# Altium footprint library SlaveBoardFootprints.PcbLib: 18 footprints (part 1 of 2)
Each footprint in its own frame and in the unit in brackets; x right, y up, seen from the top. Pads: shape width x height; smd on the part's side, far side on the other; paste and mask are expansions set on the pad; w line width, h text height; cw(c..) or ccw(c..) is an arc to the next point about the centre after c.
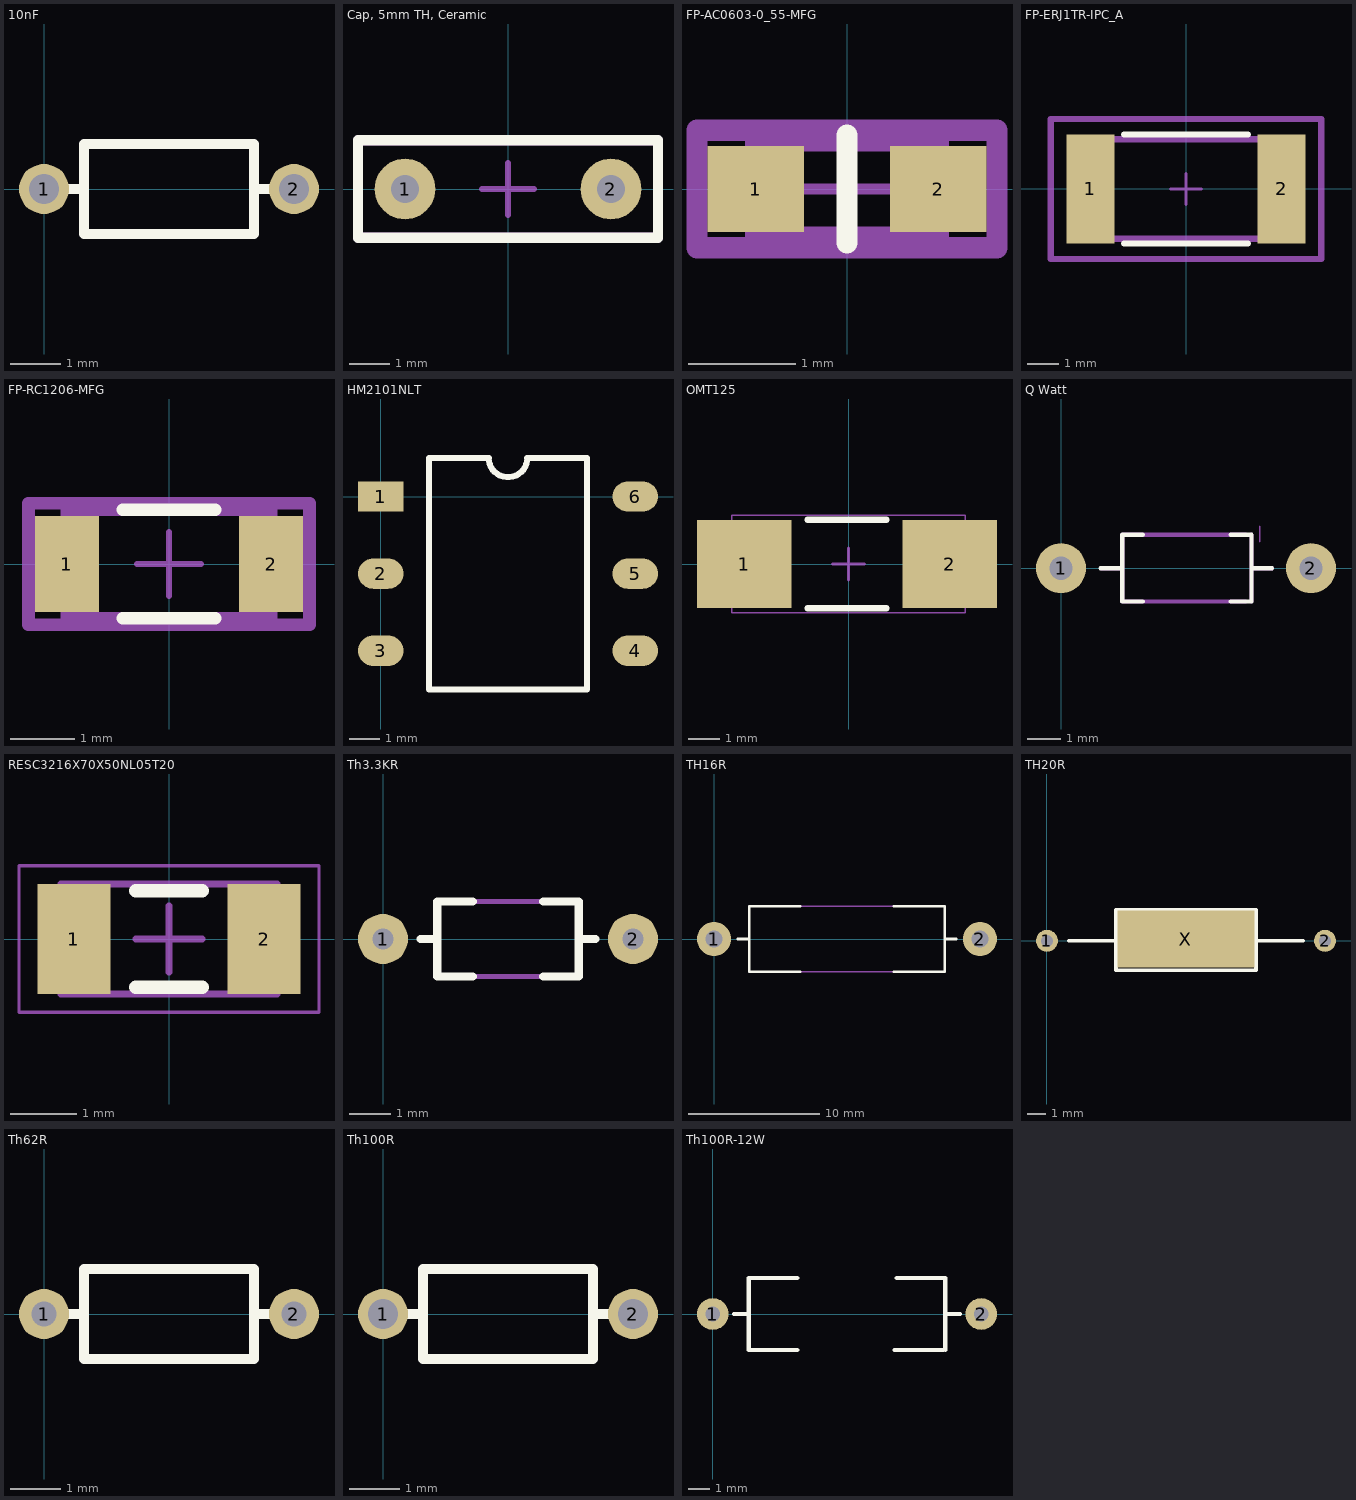
[diagram p0: the footprints below, top view; thin cyan lines are the x and y axes]

## 10nF [mm]
pads (2):
  round 1 hole 0.6: 1(0,0) 2(5,0)
Top Overlay:
  lines w0.2: 0,0 0.8,0 ; 4.2,0 5,0 ; 0.8,-0.9 4.2,-0.9 4.2,0.9 0.8,0.9 0.8,-0.9

## Cap, 5mm TH, Ceramic [mm] "Through Hole Cap, Ceramic"
height 2.54
pads (2):
  round 1.5 hole 0.7: 1(-2.54,0) 2(2.54,0)
Top Overlay:
  lines w0.254: -3.7,-1.2 -3.7,1.2 3.7,1.2 3.7,-1.2 -3.7,-1.2
Mechanical 15:
  lines w0.152: -0.635,0 0.635,0 ; 0,-0.635 0,0.635
  lines w0.254: -3.7,-1.2 -3.7,1.2 3.7,1.2 3.7,-1.2 -3.7,-1.2
3D body "CAP_DISC_4x3_YL.stp": height 4.47, standoff -3, extent -2.764,-1.5 2.765,1.5

## FP-AC0603-0_55-MFG [mm]
pads (2):
  rect 0.9x0.8 smd paste+0 mask+0: 1(-0.85,0) 2(0.85,0)
Top Overlay:
  lines w0.2: 0,-0.5 0,0.5
Top 3D Body:
  lines w0.2: -0.85,-0.45 0.85,-0.45 0.85,0.45 -0.85,0.45 -0.85,-0.45
Top Courtyard:
  lines w0.2: -1.4,-0.55 1.4,-0.55 1.4,0.55 -1.4,0.55 -1.4,-0.55
Top Assembly:
  lines w0.2: -1.4,-0.55 1.4,-0.55 1.4,0.55 -1.4,0.55 -1.4,-0.55
Top Component Center:
  lines w0.1: -0.5,0 0.5,0 ; 0,-0.5 0,0.5
3D body "Res_Yageo_AC0603FR-07180RL_eec.STEP": height 0.25, standoff 0, extent -1.4,-0.55 1.4,0.55

## FP-ERJ1TR-IPC_A [mm]
pads (2):
  rect 1.555x3.506 smd paste+0 mask+0: 1(-3.076,0) 2(3.076,0)
Top Overlay:
  lines w0.2: -1.998,-1.753 1.998,-1.753 ; -1.998,1.753 1.998,1.753
Top 3D Body:
  lines w0.2: -3.2,-1.6 -3.2,1.6 3.2,1.6 3.2,-1.6 -3.2,-1.6
Top Courtyard:
  lines w0.2: -4.353,-2.253 -4.353,2.253 4.353,2.253 4.353,-2.253 -4.353,-2.253
Top Assembly:
  lines w0.2: -4.353,-2.253 -4.353,2.253 4.353,2.253 4.353,-2.253 -4.353,-2.253
  text ".Designator" at 0,0.188 h1
Top Component Center:
  lines w0.1: -0.5,0 0.5,0 ; 0,-0.5 0,0.5
3D body "Res_Panasonic_ERJ-1TRQFR22U_eec.STEP": height 0.25, standoff 0, extent -4.353,-2.253 4.353,2.253

## FP-RC1206-MFG [mm]
pads (2):
  rect 1x1.5 smd paste+0 mask+0: 1(-1.6,0) 2(1.6,0)
Top Overlay:
  lines w0.2: -0.725,-0.85 0.725,-0.85 ; -0.725,0.85 0.725,0.85
Top 3D Body:
  lines w0.2: -1.6,-0.85 -1.6,0.85 1.6,0.85 1.6,-0.85 -1.6,-0.85
Top Courtyard:
  lines w0.2: -2.2,-0.95 -2.2,0.95 2.2,0.95 2.2,-0.95 -2.2,-0.95
Top Assembly:
  lines w0.2: -2.2,-0.95 -2.2,0.95 2.2,0.95 2.2,-0.95 -2.2,-0.95
  text ".Designator" at 0,0.188 h1
Top Component Center:
  lines w0.1: -0.5,0 0.5,0 ; 0,-0.5 0,0.5
3D body "Res_YAGEO_RC1206JR-070RL_eec.STEP": height 0.25, standoff 0, extent -2.2,-0.95 2.2,0.95

## HM2101NLT [mm]
pads (6):
  rect 1.5x1 smd: 1(0,0)
  oval 1.5x1 smd: 2(0,-2.54) 3(0,-5.08) 4(8.38,-5.08) 5(8.38,-2.54) 6(8.38,0)
Top Overlay:
  lines w0.2: 1.585,-6.35 1.585,1.27 3.555,1.27 ccw(c4.19,1.27) 4.825,1.27 6.795,1.27 6.795,-6.35 1.585,-6.35
3D body "HM2101NL_3D.STEP": height 5.73, standoff 0.01, extent -0.245,-6.31 8.645,1.31

## OMT125 [mm] "Chip Resistor, 2-Leads, Body 3.20x1.60mm, IPC Medium Density"
height 0.7
pads (2):
  rect 3x2.8 smd: 1(-3.3,0) 2(3.2,0)
Top Overlay:
  lines w0.2: -1.3,-1.4 1.2,-1.4 ; -1.3,1.4 1.2,1.4
Mechanical 15:
  lines w0.05: -3.7,-1.55 3.7,-1.55 3.7,1.55 -3.7,1.55 -3.7,-1.55
  lines w0.1: -0.5,0 0.5,0 ; 0,-0.5 0,0.5

## PCBComponent_1 [mm]

## Q Watt [mm] "1/8W Thruhole"
pads (2):
  round 1.5 hole 0.7: 1(0,0) 2(7.493,0)
Top Overlay:
  lines w0.127: 1.183,0 1.803,0 ; 2.453,-1 1.833,-1 1.833,0 1.833,1 2.453,1 ; 5.088,-1 5.708,-1 5.708,0 ; 5.088,1 5.708,1 5.708,0 ; 6.328,0 5.708,0
Mechanical 13:
  lines w0.127: 1.213,0 1.833,0 ; 5.533,-1 1.833,-1 1.833,0 ; 5.533,1 1.833,1 1.833,0 ; 5.708,-1 5.708,0 ; 5.708,1 5.708,0 ; 6.328,0 5.708,0
Mechanical 15:
  lines w0.05: 5.958,0.8 5.958,1.25
3D body "axial resistor 6mm 7.6pitch.STEP": height 2.17, standoff -2.97, extent -0.242,-1.125 7.658,1.025

## RESC3216X70X50NL05T20 [mm] "Chip Resistor, 2-Leads, Body 3.20x1.60mm, IPC Medium Density"
height 0.7
pads (2):
  rect 1.1x1.65 smd: 1(-1.425,0) 2(1.425,0)
Top Overlay:
  lines w0.2: -0.5,-0.725 0.5,-0.725 ; -0.5,0.725 0.5,0.725
Mechanical 13:
  lines w0.1: -1.625,-0.825 1.625,-0.825 1.625,0.825 -1.625,0.825 -1.625,-0.825
Mechanical 15:
  lines w0.05: -2.25,-1.1 2.25,-1.1 2.25,1.1 -2.25,1.1 -2.25,-1.1
  lines w0.1: -0.5,0 0.5,0 ; 0,-0.5 0,0.5
3D body: height 0.7, standoff 0, extent 1.125,-0.825 1.625,0.825
3D body: height 0.7, standoff 0, extent -1.625,-0.825 -1.125,0.825
3D body: height 0.7, standoff 0, extent -1.125,-0.825 1.125,0.825

## Th3.3KR [mm]
pads (2):
  round 1.2 hole 0.5: 1(0,0) 2(6,0)
Top Overlay:
  lines w0.2: 0.9,0 1.3,0 ; 2.15,-0.9 1.3,-0.9 1.3,0.9 2.15,0.9 ; 3.85,-0.9 4.7,-0.9 4.7,0.9 3.85,0.9 ; 4.7,0 5.1,0
Mechanical 13:
  lines w0.127: 1.7,-0.9 4.3,-0.9 ; 1.7,0.9 4.3,0.9
3D body "RES-18W.STEP": height 1.9, standoff -2, extent -0.2,-0.9 6.2,0.9

## TH16R [mm]
pads (2):
  round 2.6 hole 1.3: 1(0,0) 2(20.3,0)
Top Overlay:
  lines w0.2: 1.8,0 2.7,0 ; 6.575,-2.5 2.7,-2.5 2.7,2.5 6.575,2.5 ; 13.725,-2.5 17.6,-2.5 17.6,2.5 13.725,2.5 ; 17.7,0 18.5,0
Mechanical 13:
  lines w0.127: 6.433,-2.5 13.8,-2.5 ; 6.533,2.5 13.9,2.5
3D body "RES-2W.STEP": height 5.5, standoff -3, extent -0.31,-2.7 20.71,2.8

## TH20R [mm]
pads (3):
  round 1.2 hole 0.65: 1(0,0) 2(15.2,0)
  rect 7.5x3.1 smd: X(7.6,0.1)
Top Overlay:
  lines w0.2: 1.2,0 3.775,0 ; 11.425,0 14,0 ; 3.775,0 3.775,1.7 11.425,1.7 11.425,-1.6 3.775,-1.6 3.775,0
3D body "PR01.step": height 2.49, standoff -2.07, extent -0.015,-1.147 15.455,1.348

## Th62R [mm]
pads (2):
  round 1 hole 0.5: 1(0,0) 2(5,0)
Top Overlay:
  lines w0.2: 0,0 0.8,0 ; 4.2,0 5,0 ; 0.8,-0.9 0.8,0.9 4.2,0.9 4.2,-0.9 0.8,-0.9
3D body "CF18_v2.step": height 1.85, standoff 0, extent -0.2,-0.75 5.2,0.943

## Th100R [mm] "1/8W Thruhole"
pads (2):
  round 1 hole 0.6: 1(0,0) 2(5,0)
Top Overlay:
  lines w0.2: 0,0 0.8,0 ; 4.2,0 5,0 ; 0.8,-0.9 0.8,0.9 4.2,0.9 4.2,-0.9 0.8,-0.9
3D body "RF18_v2.step": height 1.9, standoff 0, extent -0.225,-0.9 5.225,0.893

## Th100R-12W [mm] "1/2W Thruhole"
pads (2):
  round 1.5 hole 0.7: 1(0,0) 2(12.7,0)
Top Overlay:
  lines w0.2: 1,0 1.6,0 ; 4,-1.7 1.7,-1.7 1.7,1.7 4,1.7 ; 8.6,-1.7 10.9,-1.7 ; 8.7,1.7 11,1.7 11,-1.7 ; 11,0 11.7,0
3D body "RES_12W.STEP": height 3.5, standoff -3, extent -0.27,-1.75 12.97,1.75